# EAGLE library part FREESCALE-PRESSURE-MPL3115A2 (library Pygmy)
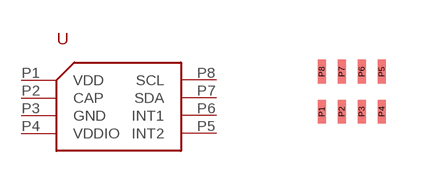
[diagram p93: symbol with the pads of UQFN-8L; footprint UQFN-8L]

Designator prefix U

## FREESCALE-PRESSURE-MPL3115A2  [UQFN-8L]
P1  VDD
P2  CAP
P3  GND
P4  VDDIO
P5  INT2
P6  INT1
P7  SDA
P8  SCL

## Footprint UQFN-8L (pad centres in mm)
smd 0.2 x 0.6: P1 0,0; P2 0.5,0; P3 1,0; P4 1.5,0; P5 1.5,1; P6 1,1; P7 0.5,1; P8 0,1